# EAGLE library part ARDUINONANO (library arduino_nano_smt)
Arduino Nano V3.0 designed for female smd header S5641-ND
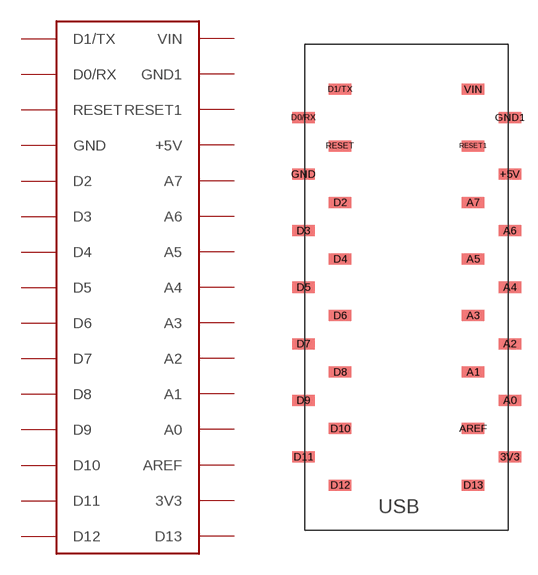
[diagram p0: symbol with the pads of PDIP-32; footprint PDIP-32]

Designator prefix -

## ARDUINONANO  [PDIP-32]
3V3  3V3
+5V  +5V
A0  A0
A1  A1
A2  A2
A3  A3
A4  A4
A5  A5
A6  A6
A7  A7
AREF  AREF
D0/RX  D0/RX
D1/TX  D1/TX
D2  D2
D3  D3
D4  D4
D5  D5
D6  D6
D7  D7
D8  D8
D9  D9
D10  D10
D11  D11
D12  D12
D13  D13
GND  GND
GND1  GND1
RESET  RESET
RESET1  RESET1
VIN  VIN

## Footprint PDIP-32 (pad centres in mm)
smd 2.007 x 0.991: 3V3 16.891,-35.56; +5V 16.891,-10.16; A0 16.891,-30.48; A1 13.589,-27.94; A2 16.891,-25.4; A3 13.589,-22.86; A4 16.891,-20.32; A5 13.589,-17.78; A6 16.891,-15.24; A7 13.589,-12.7; AREF 13.589,-33.02; D0/RX -1.651,-5.08; D1/TX 1.651,-2.54; D2 1.651,-12.7; D3 -1.651,-15.24; D4 1.651,-17.78; D5 -1.651,-20.32; D6 1.651,-22.86; D7 -1.651,-25.4; D8 1.651,-27.94; D9 -1.651,-30.48; D10 1.651,-33.02; D11 -1.651,-35.56; D12 1.651,-38.1; D13 13.589,-38.1; GND -1.651,-10.16; GND1 16.891,-5.08; RESET 1.651,-7.62; RESET1 13.589,-7.62; VIN 13.589,-2.54